# Altium footprint library JST_PHR_2_0.PcbLib: 1 footprints
Each footprint in its own frame and in the unit in brackets; x right, y up, seen from the top. Pads: shape width x height; smd on the part's side, far side on the other; paste and mask are expansions set on the pad; w line width, h text height; cw(c..) or ccw(c..) is an arc to the next point about the centre after c.
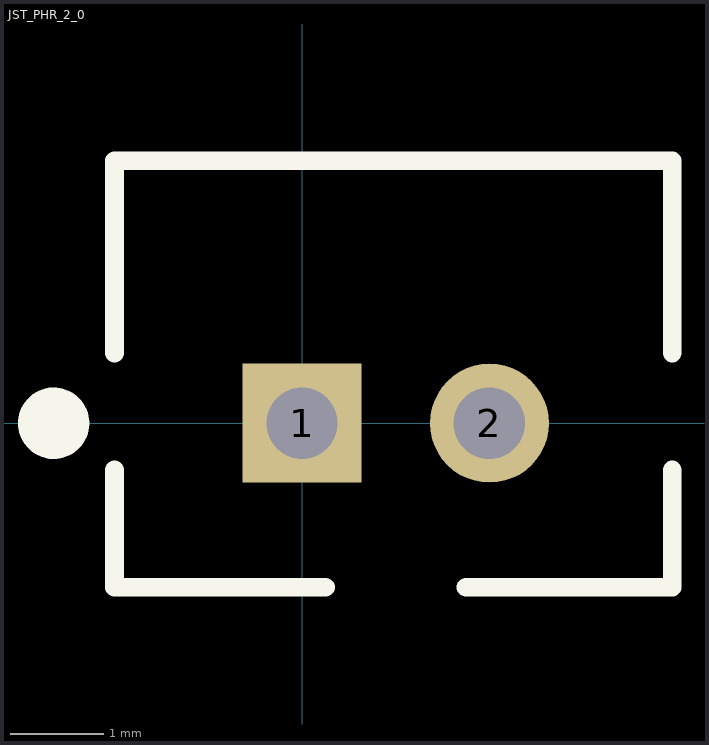
[diagram p0: the footprint, top view; thin cyan lines are the x and y axes]

## JST_PHR_2_0 [mil]
pads (2):
  rect 50x50 hole 30: 1(0,0)
  round 50 hole 30: 2(78.74,0)
Top Overlay:
  circle w15: c-104.33,0 r7.5
  lines w7.87: -78.74,-19.68 -78.74,-68.9 9.84,-68.9 ; -78.74,29.53 -78.74,110.24 155.51,110.24 155.51,29.53 ; 68.9,-68.9 155.51,-68.9 155.51,-19.68
3D body "JST_PH_1x02_P2.00mm.step": height 236.22, standoff -133.86, extent -76.77,-68.9 155.51,110.24